# Altium footprint library LM_E16_8_5_8PIN.PcbLib: 1 footprints
Each footprint in its own frame and in the unit in brackets; x right, y up, seen from the top. Pads: shape width x height; smd on the part's side, far side on the other; paste and mask are expansions set on the pad; w line width, h text height; cw(c..) or ccw(c..) is an arc to the next point about the centre after c.
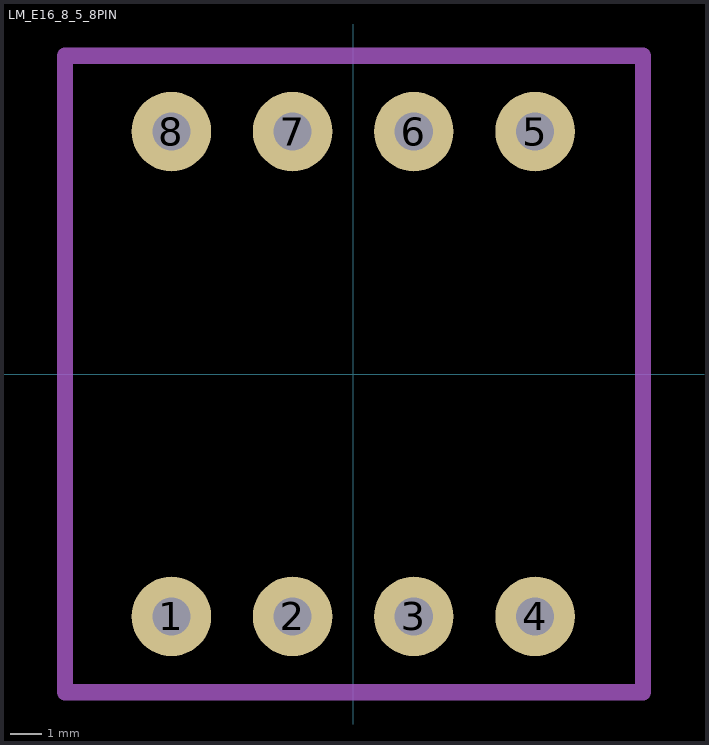
[diagram p0: the footprint, top view; thin cyan lines are the x and y axes]

## LM_E16_8_5_8PIN [mm]
pads (8):
  round 2.5 hole 1.2: 1(-5.715,-7.62) 2(-1.905,-7.62) 3(1.905,-7.62) 4(5.715,-7.62) 5(5.715,7.62) 6(1.905,7.62) 7(-1.905,7.62) 8(-5.715,7.62)
Mechanical 1:
  lines w0.508: -9.056,-10 9.106,-10 9.106,10 -9.056,10 -9.056,-10
3D body "User Library-Ensamblaje trafo 16-8-5.STEP": height 13.89, standoff -2.81, extent -9.056,-10 9.106,10